# EAGLE library part RWS371 (library rkf)
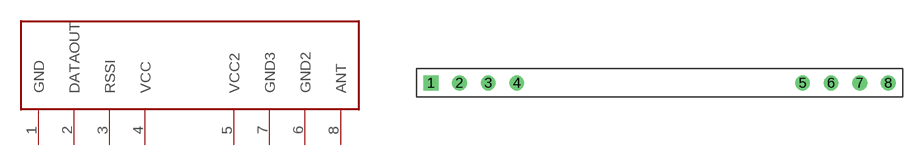
[diagram p0: symbol with the pads of RWS-371; footprint RWS-371]

Designator prefix -

## RWS371  [RWS-371]
1  GND  pwr
2  DATAOUT  out
3  RSSI  out
4  VCC  pwr
5  VCC2  pwr
6  GND2
7  GND3
8  ANT

## Footprint RWS-371 (pad centres in mm)
drill 0.8 square: 1 0,0
drill 0.8: 2 2.54,0; 3 5.08,0; 4 7.62,0; 5 33.02,0; 6 35.56,0; 7 38.1,0; 8 40.64,0